# Altium footprint library Chip_kz85.PcbLib: 314 footprints (part 15 of 20)
Each footprint in its own frame and in the unit in brackets; x right, y up, seen from the top. Pads: shape width x height; smd on the part's side, far side on the other; paste and mask are expansions set on the pad; w line width, h text height; cw(c..) or ccw(c..) is an arc to the next point about the centre after c.
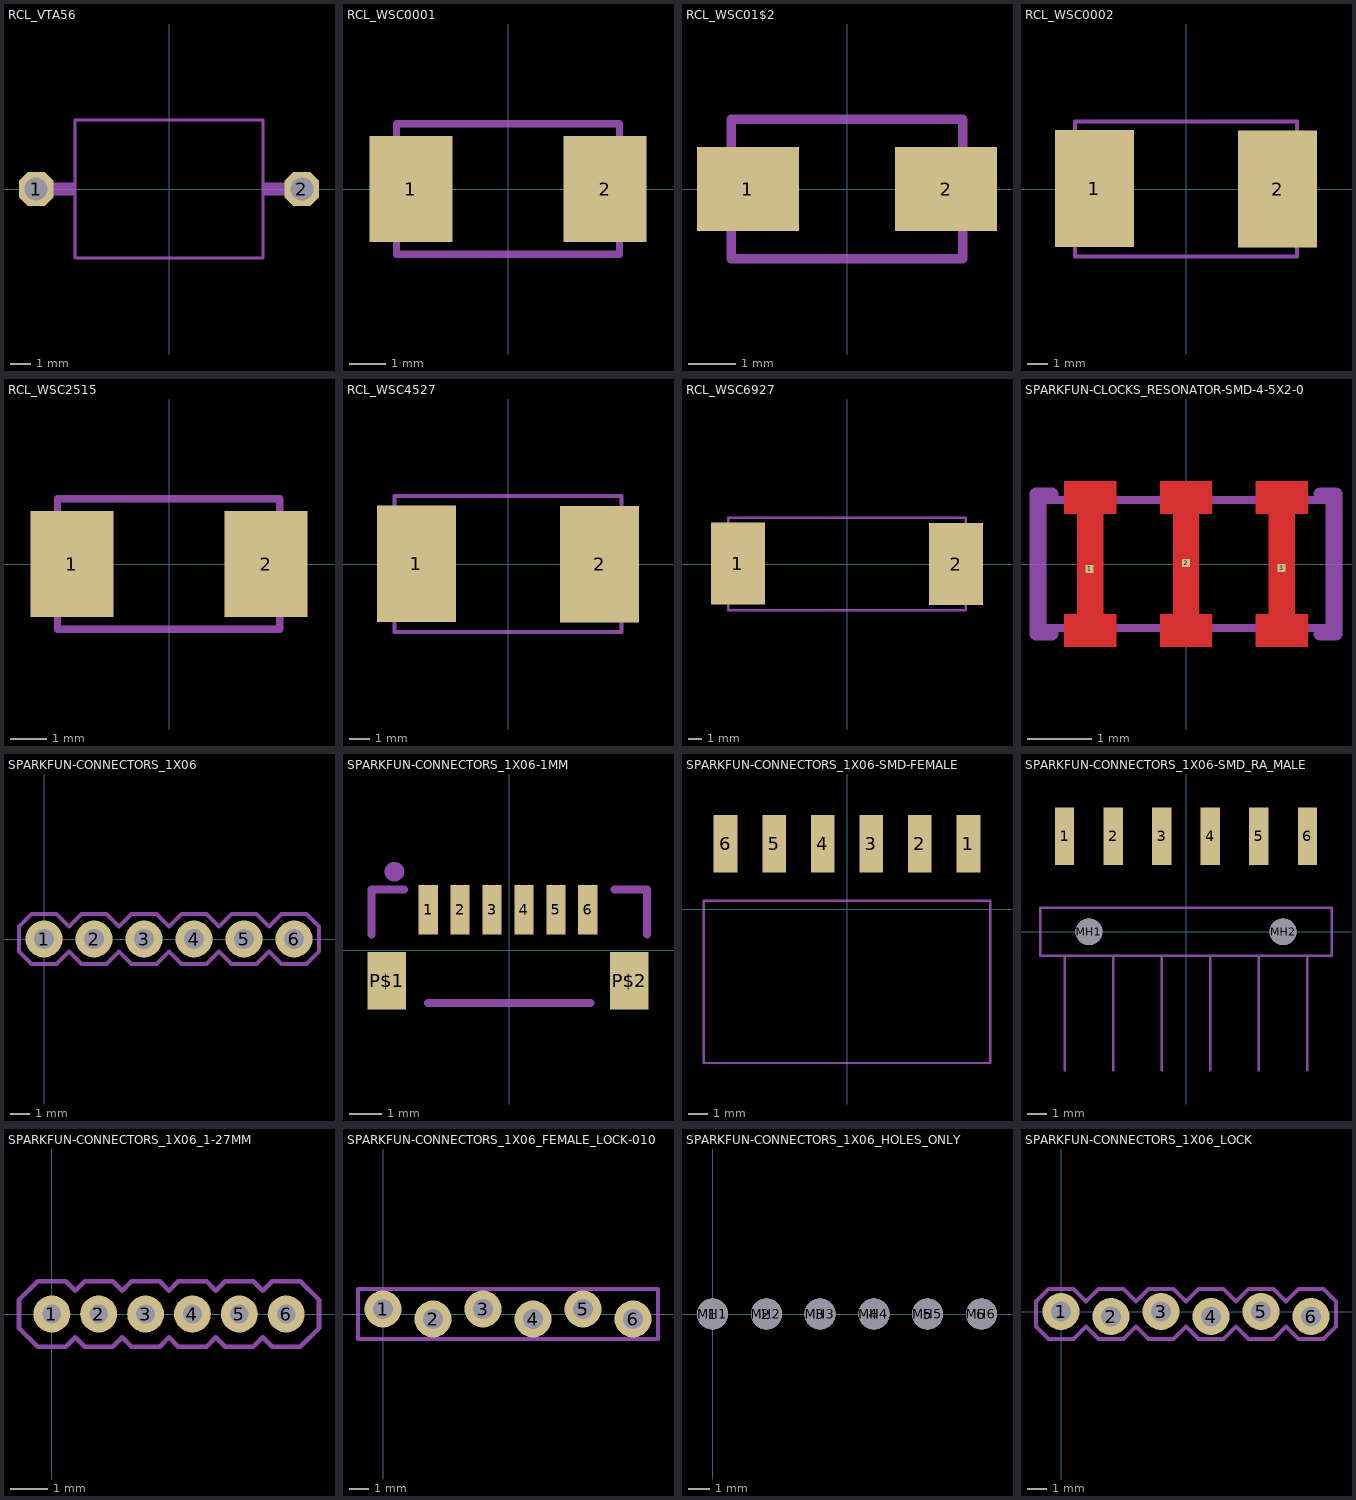
[diagram p14: the footprints below, top view; thin cyan lines are the x and y axes]

## RCL_VTA56 [mil]
pads (2):
  oct 64.97x64.97 / inner round 60.02 / far side oct 64.97x64.97 hole 43.31: 1(-250,0) 2(250,0)
Mechanical 3:
  lines w24: -250,0 -200,0 ; 200,0 250,0
Mechanical 7:
  region: -200,-12 -200,12 -175,12 -175,-12
  region: 175,-12 175,12 200,12 200,-12
  lines w6: -177.17,-129.92 -177.17,129.92 177.17,129.92 177.17,-129.92 -177.17,-129.92

## RCL_WSC0001 [mm]
pads (2):
  rect 2.29x2.92 smd: 1(-2.675,0) 2(2.675,0)
Mechanical 3:
  lines w0.203: -3.075,-1.8 -3.075,1.8 ; 3.075,-1.8 3.075,1.8
Mechanical 7:
  lines w0.203: -3.075,-1.606 -3.075,-1.8 3.075,-1.8 3.075,-1.606 ; -3.075,1.606 -3.075,1.8 3.075,1.8 3.075,1.606

## RCL_WSC01$2 [mm]
pads (2):
  rect 2.16x1.78 smd: 1(-2.1,0) 2(2.1,0)
Mechanical 3:
  lines w0.203: -2.45,-1.475 -2.45,1.475 ; 2.45,-1.475 2.45,1.475
Mechanical 7:
  lines w0.203: -2.45,-1.106 -2.45,-1.475 2.45,-1.475 2.45,-1.106 ; -2.45,1.106 -2.45,1.475 2.45,1.475 2.45,1.106

## RCL_WSC0002 [mil]
pads (2):
  rect 155.12x229.92 smd: 1(-180.12,0.98) 2(180.12,0)
Mechanical 3:
  lines w8: -218.5,-132.87 -218.5,132.87 ; 218.5,-132.87 218.5,132.87
Mechanical 7:
  lines w8: -218.5,-132.87 218.5,-132.87 ; -218.5,132.87 218.5,132.87

## RCL_WSC2515 [mm]
pads (2):
  rect 2.29x2.92 smd: 1(-2.675,0) 2(2.675,0)
Mechanical 3:
  lines w0.203: -3.075,-1.8 -3.075,1.8 ; 3.05,-1.8 3.05,1.8
Mechanical 7:
  lines w0.203: -3.075,-1.606 -3.075,-1.8 3.05,-1.8 3.05,-1.606 ; -3.075,1.606 -3.075,1.8 3.05,1.8 3.05,1.606

## RCL_WSC4527 [mil]
pads (2):
  rect 155.12x229.92 smd: 1(-180.12,0.98) 2(180.12,0)
Mechanical 3:
  lines w8: -223.43,-132.87 -223.43,133.86 ; 223.43,-132.87 223.43,133.86
Mechanical 7:
  lines w8: -223.43,-132.87 223.43,-132.87 ; -223.43,133.86 223.43,133.86

## RCL_WSC6927 [mm]
pads (2):
  rect 3.94x5.97 smd: 1(-7.95,0.025) 2(7.95,0)
Mechanical 3:
  lines w0.203: -8.65,-3.375 -8.65,3.375 ; 8.65,-3.375 8.65,3.375
Mechanical 7:
  lines w0.203: -8.65,-3.375 8.65,-3.375 ; -8.65,3.375 8.65,3.375

## SPARKFUN-CLOCKS_RESONATOR-SMD-4-5X2-0 [mil]
pads (3):
  rect 5x5 smd mask+0: 1(-59.5,-3) 2(0,0.5) 3(59,-2.5)
Top Layer:
  region: -75,51 -43,51 -43,31 -51,31 -51,-31 -43,-31 -43,-51 -75,-51 -75,-31 -67,-31 -67,31 -75,31
  region: -16,51 16,51 16,31 8,31 8,-31 16,-31 16,-51 -16,-51 -16,-31 -8,-31 -8,31 -16,31
  region: 43,51 75,51 75,31 67,31 67,-31 75,-31 75,-51 43,-51 43,-31 51,-31 51,31 43,31
Top Paste:
  region: 43.31,-51.18 43.31,-31.5 74.8,-31.5 74.8,-51.18
  region: -15.75,-51.18 -15.75,-31.5 15.75,-31.5 15.75,-51.18
  region: -74.8,-51.18 -74.8,-31.5 -43.31,-31.5 -43.31,-51.18
  region: 43.31,31.5 43.31,51.18 74.8,51.18 74.8,31.5
  region: -15.75,31.5 -15.75,51.18 15.75,51.18 15.75,31.5
  region: -74.8,31.5 -74.8,51.18 -43.31,51.18 -43.31,31.5
Mechanical 3:
  lines w5: -88.58,-39.37 88.58,-39.37 88.58,39.37 -88.58,39.37 -88.58,-39.37
Mechanical 7:
  lines w8: -82.68,-43.31 -92.52,-43.31 -92.52,43.31 -82.68,43.31 ; 82.68,-43.31 92.52,-43.31 92.52,43.31 82.68,43.31

## SPARKFUN-CONNECTORS_1X06 [mil]
pads (6):
  round 74 hole 40: 1(0,0) 2(100,0) 3(200,0) 4(300,0) 5(400,0) 6(500,0)
Mechanical 3:
  region: 490,-10 490,10 510,10 510,-10
  region: 390,-10 390,10 410,10 410,-10
  region: 290,-10 290,10 310,10 310,-10
  region: 190,-10 190,10 210,10 210,-10
  region: 90,-10 90,10 110,10 110,-10
  region: -10,-10 -10,10 10,10 10,-10
Mechanical 7:
  lines w8: -50,-25 -50,25 -25,50 25,50 50,25 75,50 125,50 150,25 175,50 225,50 250,25 275,50 325,50 350,25 375,50 425,50 450,25 475,50 525,50 550,25 550,-25 525,-50 475,-50 450,-25 425,-50 375,-50 350,-25 325,-50 275,-50 250,-25 225,-50 175,-50 150,-25 125,-50 75,-50 50,-25 25,-50 -25,-50 -50,-25

## SPARKFUN-CONNECTORS_1X06-1MM [mm]
pads (8):
  rect 0.6x1.55 smd: 1(-2.54,1.27) 2(-1.54,1.27) 3(-0.54,1.27) 4(0.46,1.27) 5(1.46,1.27) 6(2.46,1.27)
  rect 1.2x1.8 smd: P$1(-3.84,-0.955) P$2(3.76,-0.955)
Mechanical 7:
  circle w0.406: c-3.6,2.47 r0.105
  lines w0.254: -4.318,0.508 -4.318,1.905 -3.302,1.905 ; -2.54,-1.651 2.54,-1.651 ; 3.302,1.905 4.318,1.905 4.318,0.508

## SPARKFUN-CONNECTORS_1X06-SMD-FEMALE [mm]
pads (6):
  rect 1.25x3 smd: 1(6.35,3.425) 2(3.81,3.425) 3(1.27,3.425) 4(-1.27,3.425) 5(-3.81,3.425) 6(-6.35,3.425)
Mechanical 7:
  lines w0.127: -7.5,-8.05 -7.5,0.45 7.5,0.45 7.5,-8.05 -7.5,-8.05

## SPARKFUN-CONNECTORS_1X06-SMD_RA_MALE [mm]
pads (8):
  rect 1x3 smd: 1(-6.35,5) 2(-3.81,5) 3(-1.27,5) 4(1.27,5) 5(3.81,5) 6(6.35,5)
  round 1.4 hole 1.4 unplated: MH1(-5.08,0) MH2(5.08,0)
Mechanical 3:
  lines w0.127: -6.35,-7.25 -6.35,-1.25 ; -3.81,-7.25 -3.81,-1.25 ; -1.27,-7.25 -1.27,-1.25 ; 1.27,-7.25 1.27,-1.25 ; 3.81,-7.25 3.81,-1.25 ; 6.35,-7.25 6.35,-1.25 ; -6.35,-1.25 -7.62,-1.25 -7.62,1.25 7.62,1.25 7.62,-1.25 6.35,-1.25 ; -6.35,-1.25 -3.81,-1.25 ; -3.81,-1.25 -1.27,-1.25 ; -1.27,-1.25 1.27,-1.25 ; 1.27,-1.25 3.81,-1.25 ; 3.81,-1.25 6.35,-1.25

## SPARKFUN-CONNECTORS_1X06_1-27MM [mm]
pads (6):
  round 1 hole 0.508: 1(0,0) 2(1.27,0) 3(2.54,0) 4(3.81,0) 5(5.08,0) 6(6.35,0)
Mechanical 7:
  lines w0.127: -0.889,-0.381 -0.381,-0.889 0.381,-0.889 0.635,-0.635 0.889,-0.889 1.651,-0.889 1.905,-0.635 2.159,-0.889 2.921,-0.889 3.175,-0.635 3.429,-0.889 4.191,-0.889 4.445,-0.635 4.699,-0.889 5.461,-0.889 5.715,-0.635 5.969,-0.889 6.731,-0.889 7.239,-0.381 7.239,0.381 6.731,0.889 5.969,0.889 5.715,0.635 5.461,0.889 4.699,0.889 4.445,0.635 4.191,0.889 3.429,0.889 3.175,0.635 2.921,0.889 2.159,0.889 1.905,0.635 1.651,0.889 0.889,0.889 0.635,0.635 0.381,0.889 -0.381,0.889 -0.889,0.381 -0.889,-0.381

## SPARKFUN-CONNECTORS_1X06_FEMALE_LOCK-010 [mil]
pads (6):
  round 74 hole 40: 1(0,10) 2(100,-10) 3(200,10) 4(300,-10) 5(400,10) 6(500,-10)
Mechanical 3:
  region: -12.5,-7.5 -12.5,7.5 12.5,7.5 12.5,-7.5
  region: 87.5,-7.5 87.5,7.5 112.5,7.5 112.5,-7.5
  region: 187.5,-7.5 187.5,7.5 212.5,7.5 212.5,-7.5
  region: 287.5,-7.5 287.5,7.5 312.5,7.5 312.5,-7.5
  region: 387.5,-7.5 387.5,7.5 412.5,7.5 412.5,-7.5
  region: 487.5,-7.5 487.5,7.5 512.5,7.5 512.5,-7.5
Mechanical 7:
  lines w8: -50,-50 -50,50 550,50 550,-50 -50,-50

## SPARKFUN-CONNECTORS_1X06_HOLES_ONLY [mil]
pads (12):
  round 35 hole 35: 1(0,0) 2(100,0) 3(200,0) 4(300,0) 5(400,0) 6(500,0)
  round 58 hole 58 unplated: MH1(0,0) MH2(100,0) MH3(200,0) MH4(300,0) MH5(400,0) MH6(500,0)
Mechanical 3:
  circle w5: c0,0 r25
  circle w5: c100,0 r25
  circle w5: c200,0 r25
  circle w5: c300,0 r25
  circle w5: c400,0 r25
  circle w5: c500,0 r25

## SPARKFUN-CONNECTORS_1X06_LOCK [mil]
pads (6):
  round 74 hole 40: 1(0,0) 2(100,-10) 3(200,0) 4(300,-10) 5(400,0) 6(500,-10)
Mechanical 3:
  region: -11.5,-16.5 -11.5,6.5 11.5,6.5 11.5,-16.5
  region: 88.5,-16.5 88.5,6.5 111.5,6.5 111.5,-16.5
  region: 188.5,-16.5 188.5,6.5 211.5,6.5 211.5,-16.5
  region: 288.5,-16.5 288.5,6.5 311.5,6.5 311.5,-16.5
  region: 388.5,-16.5 388.5,6.5 411.5,6.5 411.5,-16.5
  region: 488.5,-16.5 488.5,6.5 511.5,6.5 511.5,-16.5
Mechanical 7:
  lines w8: -50,-30 -25,-55 25,-55 50,-30 75,-55 125,-55 150,-30 175,-55 225,-55 250,-30 275,-55 325,-55 350,-30 375,-55 425,-55 450,-30 475,-55 525,-55 550,-30 550,20 525,45 475,45 450,20 425,45 375,45 350,20 325,45 275,45 250,20 225,45 175,45 150,20 125,45 75,45 50,20 25,45 -25,45 -50,20 -50,-30